# Altium footprint library DF51K-18DP-2DS(800).PcbLib: 1 footprints
Each footprint in its own frame and in the unit in brackets; x right, y up, seen from the top. Pads: shape width x height; smd on the part's side, far side on the other; paste and mask are expansions set on the pad; w line width, h text height; cw(c..) or ccw(c..) is an arc to the next point about the centre after c.
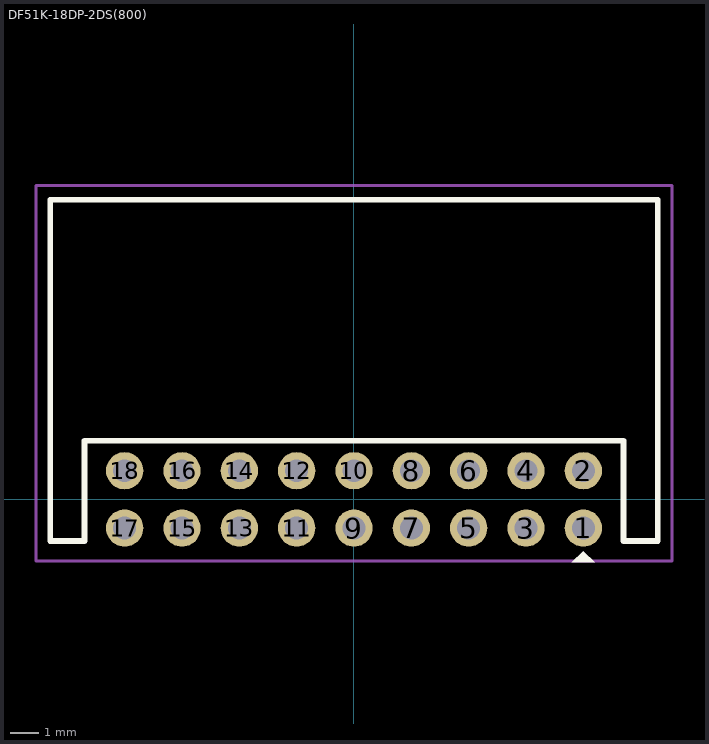
[diagram p0: the footprint, top view; thin cyan lines are the x and y axes]

## DF51K-18DP-2DS(800) [mm]
pads (18):
  round 1.3 hole 0.8: 1(8,-1) 2(8,1) 3(6,-1) 4(6,1) 5(4,-1) 6(4,1) 7(2,-1) 8(2,1) 9(0,-1) 10(0,1) 11(-2,-1) 12(-2,1) 13(-4,-1) 14(-4,1) 15(-6,-1) 16(-6,1) 17(-8,-1) 18(-8,1)
Top Overlay:
  region: 8.4,-2.2 7.6,-2.2 8,-1.8
  lines w0.2: -10.6,-1.45 -10.6,10.45 10.6,10.45 10.6,-1.45 9.4,-1.45 9.4,2.05 -9.4,2.05 -9.4,-1.45 -10.6,-1.45
Top Courtyard:
  lines w0.1: -11.1,-2.15 -8.025,-2.15 11.1,-2.15 11.1,10.95 -11.1,10.95 -11.1,-2.15
3D body "DF51K-18DP-2DS_4800599000_3D.stp": height 8.77, standoff -2.98, extent -10.6,-1.45 10.6,10.45